# Altium footprint library ECE315_S20.PcbLib: 23 footprints (part 1 of 2)
Each footprint in its own frame and in the unit in brackets; x right, y up, seen from the top. Pads: shape width x height; smd on the part's side, far side on the other; paste and mask are expansions set on the pad; w line width, h text height; cw(c..) or ccw(c..) is an arc to the next point about the centre after c.
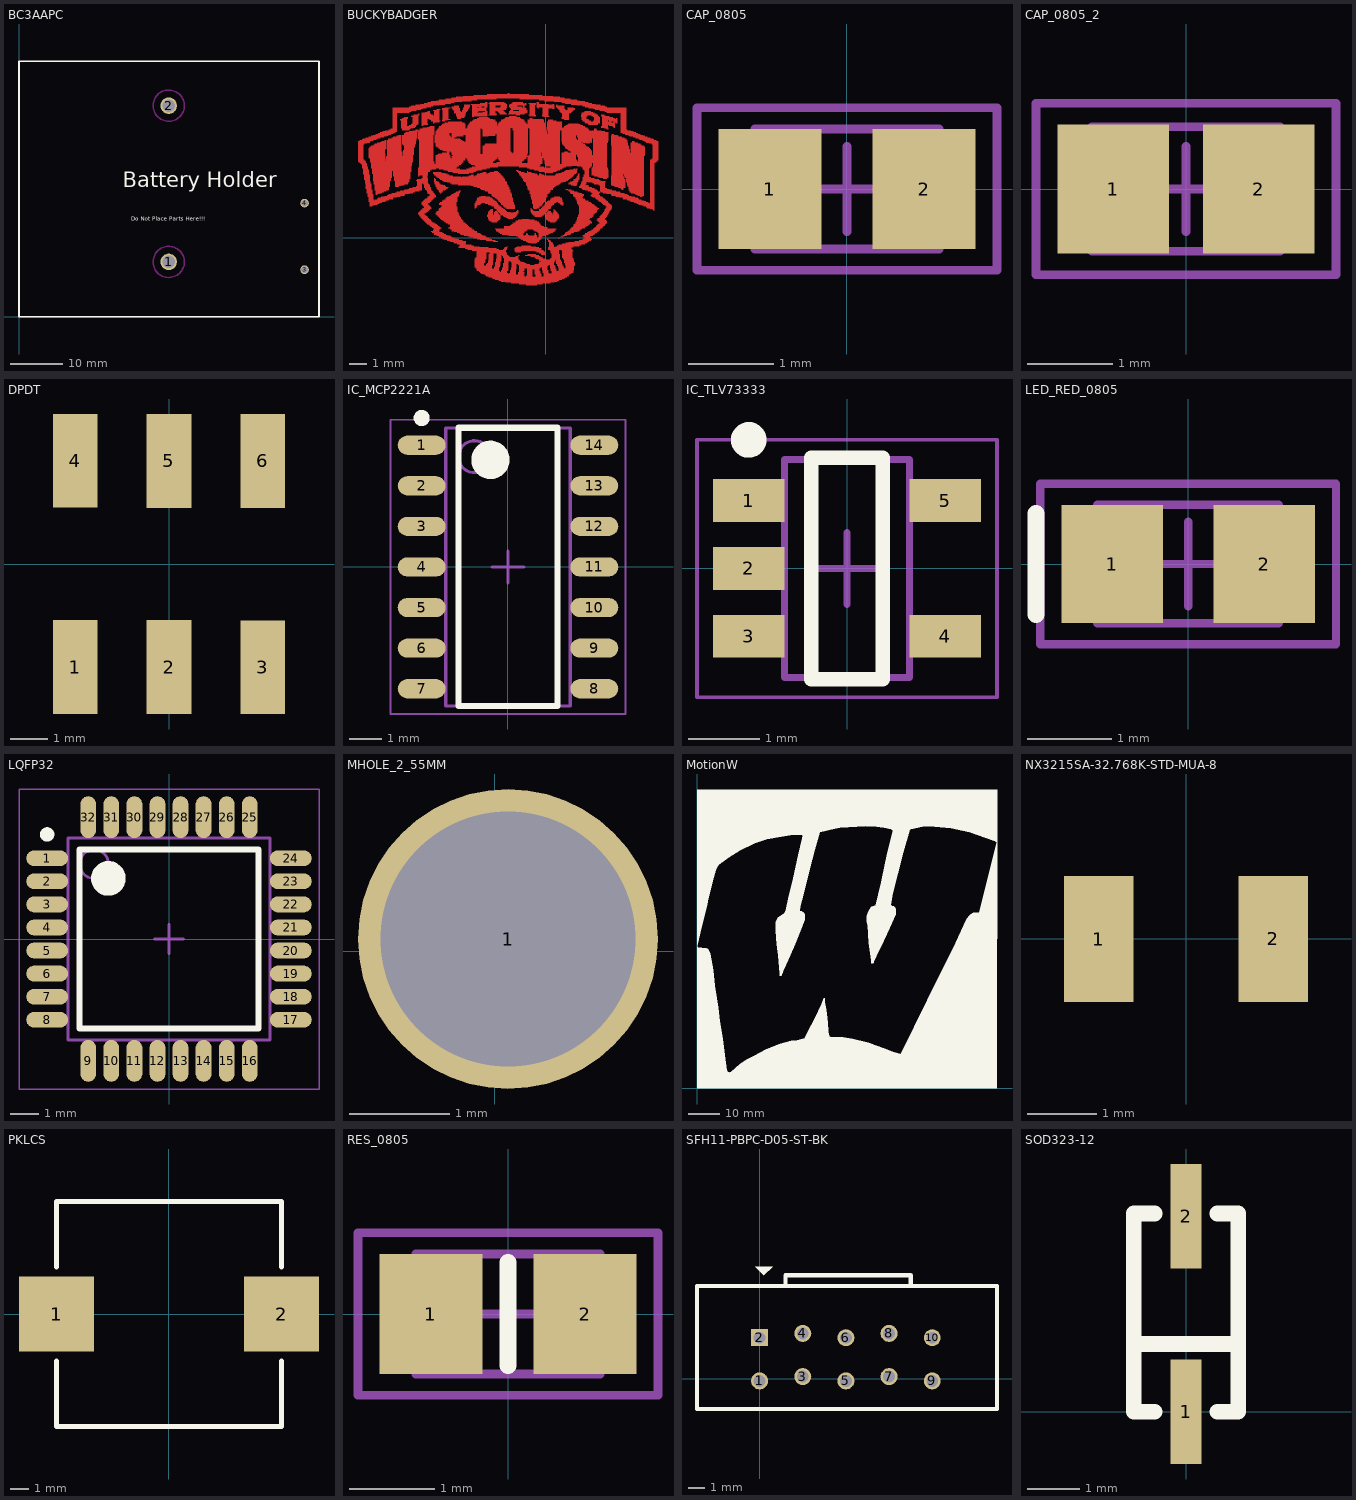
[diagram p0: the footprints below, top view; thin cyan lines are the x and y axes]

## BC3AAPC [mm]
pads (4):
  round 3.175 hole 2.37: 1(28.75,10.5) 2(28.75,40.5)
  round 1.651 hole 1.27: 3(54.82,9) 4(54.82,21.8)
Top Layer keep-out:
  circle w0.254: c28.75,40.5 r3
  circle w0.254: c28.75,10.5 r3
Top Overlay:
  lines w0.304: 0,0 57.6,0 57.6,49 0,49 0,0
  text "Battery Holder" at 19.939,23.876 h5
  text "Do Not Place Parts Here!!!" at 21.59,18.161 h1.27
3D body "BC3AAPC.STEP": height 16.51, standoff -9.14, extent 0.457,0.762 57.658,49.962

## BUCKYBADGER [mm]
Top Layer:
  drawing of 2083 lines, arcs and shapes, not listed
  text "ECE 315 / S20" at -6.35,-5.969 h1.02
Top Solder:
  drawing of 2083 lines, arcs and shapes, not listed
  text "ECE 315 / S20" at -6.35,-5.969 h1.02

## CAP_0805 [mm]
pads (2):
  rect 1.2x1.4 smd: 1(-0.9,0) 2(0.9,0)
Mechanical 13:
  lines w0.1: -1.075,-0.7 -1.075,0.7 1.075,0.7 1.075,-0.7 -1.075,-0.7
Mechanical 15:
  lines w0.1: -0.5,0 0.5,0 ; 0,-0.5 0,0.5 ; -1.75,-0.95 -1.75,0.95 1.75,0.95 1.75,-0.95 -1.75,-0.95
3D body: height 0.7, standoff 0, extent -1.075,-0.7 1.075,0.7

## CAP_0805_2 [mm]
pads (2):
  rect 1.3x1.5 smd: 1(-0.85,0) 2(0.85,0)
Mechanical 13:
  lines w0.1: -1.1,-0.725 1.1,-0.725 1.1,0.725 -1.1,0.725 -1.1,-0.725
Mechanical 15:
  lines w0.1: -0.5,0 0.5,0 ; 0,-0.5 0,0.5 ; -1.75,-1 1.75,-1 1.75,1 -1.75,1 -1.75,-1
3D body: height 1.1, standoff 0, extent -1.1,-0.725 1.1,0.725

## DPDT [mm]
pads (6):
  rect 1.2x2.5 smd: 1(-2.5,-2.75) 2(0,-2.75) 3(2.5,-2.75) 4(-2.5,2.75) 5(0,2.75) 6(2.5,2.75)

## IC_MCP2221A [mm] "SOIC, 14-Leads, Body 8.65x3.90mm, Pitch 1.27mm, IPC Medium Density"
height 1.75
pads (14):
  oval 1.5x0.6 smd: 1(-2.7,3.81) 2(-2.7,2.54) 3(-2.7,1.27) 4(-2.7,0) 5(-2.7,-1.27) 6(-2.7,-2.54) 7(-2.7,-3.81) 8(2.7,-3.81) 9(2.7,-2.54) 10(2.7,-1.27) 11(2.7,0) 12(2.7,1.27) 13(2.7,2.54) 14(2.7,3.81)
Top Overlay:
  circle w0.25: c-2.7,4.66 r0.125
  circle w0.6: c-0.55,3.35 r0.3
  lines w0.2: -1.55,-4.35 -1.55,4.35 1.55,4.35 1.55,-4.35 -1.55,-4.35
Mechanical 13:
  circle w0.1: c-1.05,3.45 r0.5
  lines w0.1: -1.95,-4.35 -1.95,4.35 1.95,4.35 1.95,-4.35 -1.95,-4.35
Mechanical 15:
  lines w0.05: -3.675,-4.6 -3.675,4.6 3.675,4.6 3.675,-4.6 -3.675,-4.6
  lines w0.1: -0.5,0 0.5,0 ; 0,-0.5 0,0.5
3D body "IC_TLV73333.step": height 1.75, standoff 0, extent -3,-4.35 3,4.35

## IC_TLV73333 [mm] "SOT23, 5-Leads, Body 2.90x2.80mm, Pitch 0.95mm, IPC Medium Density"
height 1.45
pads (5):
  rect 1x0.6 smd: 1(-1.375,0.95) 2(-1.375,0) 3(-1.375,-0.95) 4(1.375,-0.95) 5(1.375,0.95)
Top Overlay:
  circle w0.25: c-1.375,1.8 r0.125
  lines w0.2: -0.5,-1.55 0.5,-1.55 0.5,1.55 -0.5,1.55 -0.5,-1.55
Mechanical 13:
  lines w0.1: -0.875,-1.525 -0.875,1.525 0.875,1.525 0.875,-1.525 -0.875,-1.525
Mechanical 15:
  lines w0.05: -2.1,-1.8 -2.1,1.8 2.1,1.8 2.1,-1.8 -2.1,-1.8
  lines w0.1: -0.5,0 0.5,0 ; 0,-0.5 0,0.5
3D body "IC_TLV73333.step": height 1.45, standoff 0, extent -1.5,-1.525 1.5,1.525

## LED_RED_0805 [mm]
pads (2):
  rect 1.2x1.4 smd: 1(-0.9,0) 2(0.9,0)
Top Overlay:
  lines w0.2: -1.8,-0.6 -1.8,0.6
Mechanical 13:
  lines w0.1: -1.075,-0.7 1.075,-0.7 1.075,0.7 -1.075,0.7 -1.075,-0.7
Mechanical 15:
  lines w0.1: -0.5,0 0.5,0 ; 0,-0.5 0,0.5 ; -1.75,-0.95 1.75,-0.95 1.75,0.95 -1.75,0.95 -1.75,-0.95
3D body: height 0.8, standoff 0, extent -1.075,-0.7 1.075,0.7

## LQFP32 [mm] "TQFP, 32-Leads, Body 7.00x7.00mm, Pitch 0.80mm, IPC Medium Density"
height 1.6
pads (32):
  oval 1.45x0.55 smd: 1(-4.225,2.8) 2(-4.225,2) 3(-4.225,1.2) 4(-4.225,0.4) 5(-4.225,-0.4) 6(-4.225,-1.2) 7(-4.225,-2) 8(-4.225,-2.8) 17(4.225,-2.8) 18(4.225,-2) 19(4.225,-1.2) 20(4.225,-0.4) 21(4.225,0.4) 22(4.225,1.2) 23(4.225,2) 24(4.225,2.8)
  oval 0.55x1.45 smd: 9(-2.8,-4.225) 10(-2,-4.225) 11(-1.2,-4.225) 12(-0.4,-4.225) 13(0.4,-4.225) 14(1.2,-4.225) 15(2,-4.225) 16(2.8,-4.225) 25(2.8,4.225) 26(2,4.225) 27(1.2,4.225) 28(0.4,4.225) 29(-0.4,4.225) 30(-1.2,4.225) 31(-2,4.225) 32(-2.8,4.225)
Top Overlay:
  circle w0.6: c-2.1,2.1 r0.3
  circle w0.25: c-4.225,3.625 r0.125
  lines w0.2: -3.1,-3.1 3.1,-3.1 3.1,3.1 -3.1,3.1 -3.1,-3.1
Mechanical 13:
  circle w0.1: c-2.6,2.6 r0.5
  lines w0.1: -3.5,-3.5 3.5,-3.5 3.5,3.5 -3.5,3.5 -3.5,-3.5
Mechanical 15:
  lines w0.05: -5.2,-5.2 5.2,-5.2 5.2,5.2 -5.2,5.2 -5.2,-5.2
  lines w0.1: -0.5,0 0.5,0 ; 0,-0.5 0,0.5
3D body "LQFP32.step": height 1.6, standoff 0, extent -4.5,-4.5 4.5,4.5

## MHOLE_2_55MM [mm]
pads (1):
  round 3 / inner round 4.572 / far side round 4.318 hole 2.55: 1(0.131,0.123)

## MotionW [mm]
Top Overlay:
  region: 5 vertices and 1 holes, not listed, extent 0,0 96.462,96.038

## NX3215SA-32.768K-STD-MUA-8 [mm]
pads (2):
  rect 1x1.8 smd: 1(-1.25,0) 2(1.25,0)

## PKLCS [mm]
pads (2):
  rect 4x4 smd: 1(-6,0) 2(6,0)
Top Overlay:
  lines w0.254: -6,-2.5 -6,-6 6,-6 6,-2.5 ; -6,2.5 -6,6 6,6 6,2.5

## RES_0805 [mm]
pads (2):
  rect 1.2x1.4 smd: 1(-0.9,0) 2(0.9,0)
Top Overlay:
  lines w0.2: 0,-0.6 0,0.6
Mechanical 13:
  lines w0.1: -1.075,-0.7 -1.075,0.7 1.075,0.7 1.075,-0.7 -1.075,-0.7
Mechanical 15:
  lines w0.1: -0.5,0 0.5,0 ; 0,-0.5 0,0.5 ; -1.75,-0.95 -1.75,0.95 1.75,0.95 1.75,-0.95 -1.75,-0.95
3D body: height 0.65, standoff 0, extent -1.075,-0.7 1.075,0.7

## SFH11-PBPC-D05-ST-BK [mm]
pads (10):
  round 1 hole 0.7: 1(0,-0.127) 3(2.54,0.127) 4(2.54,2.667) 5(5.08,-0.127) 6(5.08,2.413) 7(7.62,0.127) 8(7.62,2.667) 9(10.16,-0.127) 10(10.16,2.413)
  rect 1x1 hole 0.7: 2(0,2.413)
Top Overlay:
  region: 0.762,9.398
  region: 0.254,6.096 -0.254,6.604 0.762,6.604
  lines w0.254: 1.524,5.461 1.524,6.096 8.89,6.096 8.89,5.588 ; -3.683,-1.778 -3.683,5.461 13.97,5.461 13.97,-1.778 -3.683,-1.778
Mechanical 1:
  text "Albert Liu" at -2.032,6.858 h1.52
3D body "SFH11-xxPC-D05-ST-BK.STEP": height 8.5, standoff -3.2, extent -3.73,-1.73 13.89,5.37

## SOD323-12 [mm]
pads (2):
  rect 0.6x2 smd: 1(0,0) 2(0,3.75)
Top Overlay:
  lines w0.3: -1,1.3 1,1.3 ; -0.6,0 -1,0 -1,3.8 -0.6,3.8 ; 0.6,0 1,0 1,3.8 0.6,3.8